# Altium schematic symbol library SCH - BUTTON - SPST-NC 4 PIN.SCHLIB: 1 symbol
Pins are listed as number, name and electrical type; pins without a type are passive.

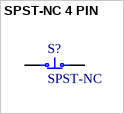
[diagram p0: symbol SPST-NC 4 PIN]

## SPST-NC 4 PIN
designator S?, comment SPST-NC
pins: 1, 2, 3, 4